# Altium integrated library ECS-TXO-2520-33-400-AN-TR.IntLib: 1 symbol
Pins are listed as number, name and electrical type; pins without a type are passive.

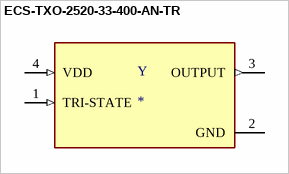
[diagram p0: symbol ECS-TXO-2520-33-400-AN-TR]

## ECS-TXO-2520-33-400-AN-TR
designator Y
40MHz TCXO HCMOS Oscillator 3.3V Enable/Disable 4-SMD, No Lead; MF: ECS Inc.; MP: ECS-TXO-2520-33-400-AN-TR; Package: SMD-4 ECS International; Value: *; Availability: Unavailable; Price: None; SnapEDA_Link: https://www.snapeda.com/parts/ECS-TXO-2520-33-400-AN-TR/ECS%20Inc./view-part/699443/?ref=snap
footprint OSC_ECS-TXO-2520-33-400-AN-TR
pins: 1 TRI-STATE (in), 2 GND (power), 3 OUTPUT (out), 4 VDD (in)